# Altium schematic symbol library fiber-optic-hp.SCHLIB: 12 symbols
Pins are listed as number, name and electrical type; pins without a type are passive.

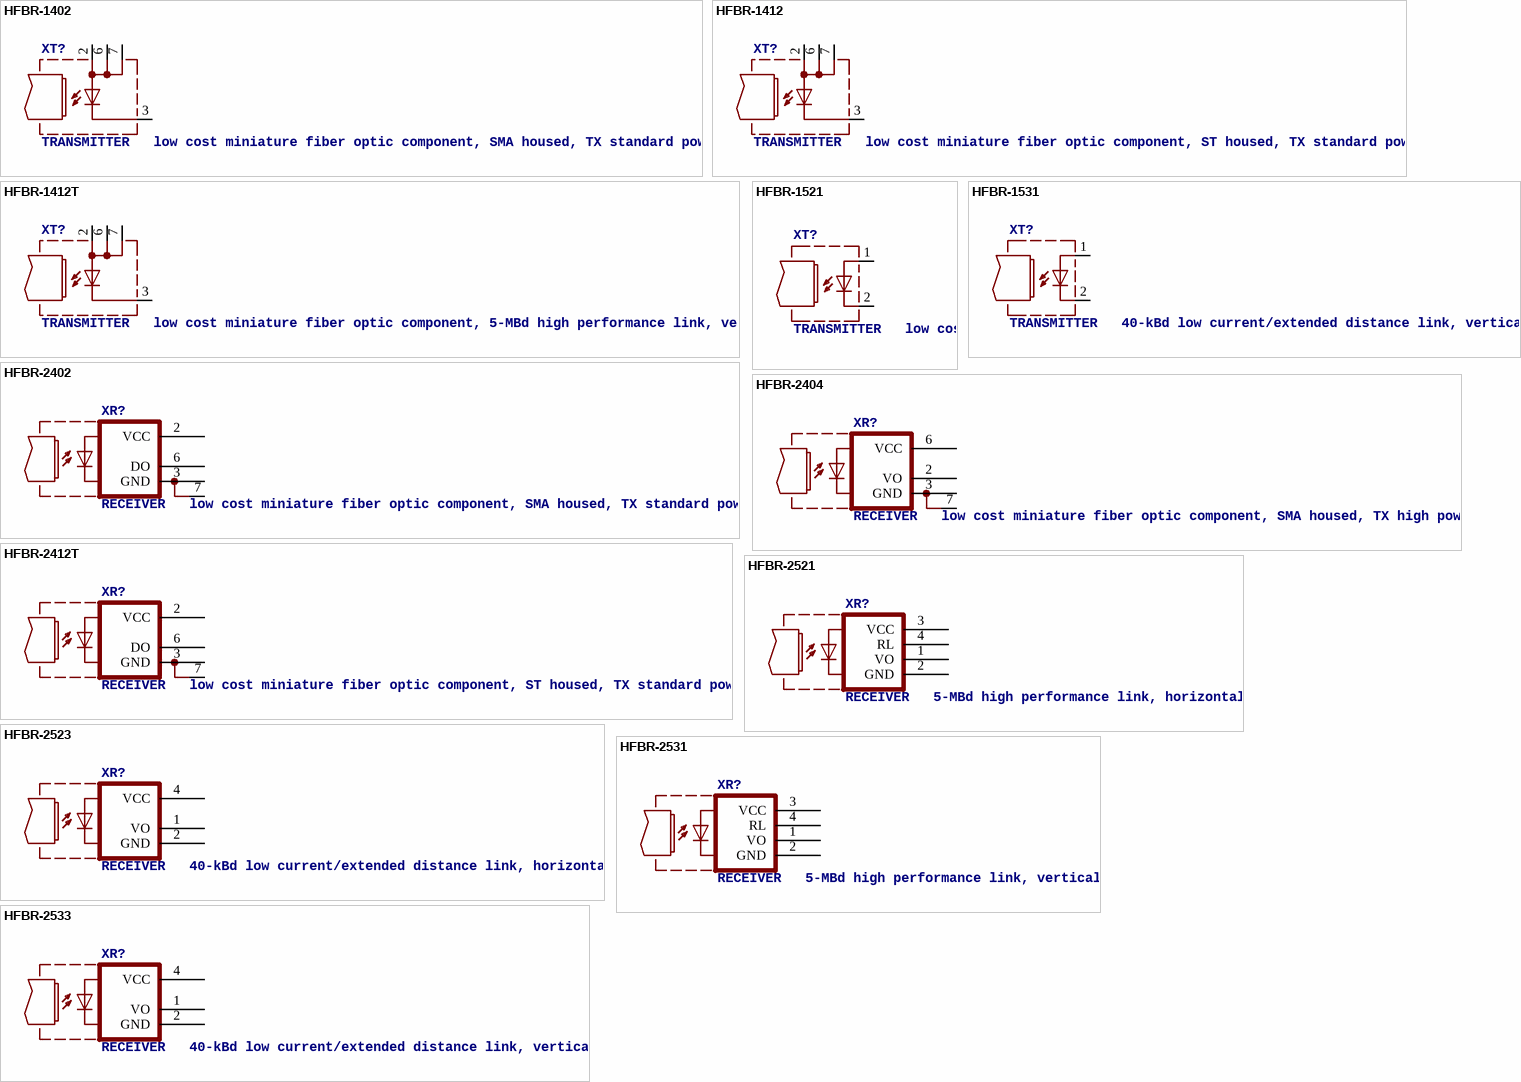
[diagram p0: symbols HFBR-1402 to HFBR-2533]

## HFBR-1402
designator XT?, comment TRANSMITTER   low cost miniature fiber optic component, SMA housed, TX standard power
MF: AGILENT TECHNOLOGIES; MPN: HFBR-1402; OC_FARNELL: 1173143; OC_NEWARK: 06F6033
footprint HFBR-X40X
pins: 2 A, 3 C, 6 A1, 7 A2

## HFBR-1412
designator XT?, comment TRANSMITTER   low cost miniature fiber optic component, ST housed, TX standard power
MF: AGILENT TECHNOLOGIES; MPN: HFBR-1412; OC_FARNELL: 1173153; OC_NEWARK: 06F6037
footprint HFBR-X41X
pins: 2 A, 3 C, 6 A1, 7 A2

## HFBR-1412T
designator XT?, comment TRANSMITTER   low cost miniature fiber optic component, 5-MBd high performance link, vertical
MPN: HFBR-1412T; MF: AGILENT TECHNOLOGIES; OC_FARNELL: 1247625; OC_NEWARK: 06F6039
footprint HFBR-X41XT
pins: 2 A, 3 C, 6 A1, 7 A2

## HFBR-1521
designator XT?, comment TRANSMITTER   low cost miniature fiber optic component, 5-MBd high performance link, vertical
MF: AGILENT TECHNOLOGIES; MPN: HFBR-1521; OC_FARNELL: 1173128; OC_NEWARK: 06F6050
footprint HFBR-15X3
pins: 1 A, 2 C

## HFBR-1531
designator XT?, comment TRANSMITTER   40-kBd low current/extended distance link, vertical
MF: AGILENT TECHNOLOGIES; MPN: HFBR-1531; OC_FARNELL: 1247639; OC_NEWARK: 06F6057
footprint HFBR-15X1V
pins: 1 A, 2 C

## HFBR-2402
designator XR?, comment RECEIVER   low cost miniature fiber optic component, SMA housed, TX standard power
MF: AGILENT TECHNOLOGIES; MPN: HFBR-2402; OC_FARNELL: 1173146; OC_NEWARK: 06F6065
footprint HFBR-X40X
pins: 2 VCC (power), 3 GND (power), 6 DO, 7 GND1 (power)

## HFBR-2404
designator XR?, comment RECEIVER   low cost miniature fiber optic component, SMA housed, TX high power
MF: AGILENT TECHNOLOGIES; MPN: HFBR-2404; OC_FARNELL: 1173147; OC_NEWARK: 06F6068
footprint HFBR-X40X
pins: 2 VO, 3 GND (power), 6 VCC (power), 7 GND1 (power)

## HFBR-2412T
designator XR?, comment RECEIVER   low cost miniature fiber optic component, ST housed, TX standard power
MPN: HFBR-2412T; MF: AGILENT TECHNOLOGIES; OC_FARNELL: 1247650; OC_NEWARK: 06F6075
footprint HFBR-X41XT
pins: 2 VCC (power), 3 GND (power), 6 DO, 7 GND1 (power)

## HFBR-2521
designator XR?, comment RECEIVER   5-MBd high performance link, horizontal
MF: AGILENT TECHNOLOGIES; MPN: HFBR-2521; OC_FARNELL: 1173131; OC_NEWARK: 06F6091
footprint HFBR-15X3
pins: 1 VO, 2 GND (power), 3 VCC (power), 4 RL

## HFBR-2523
designator XR?, comment RECEIVER   40-kBd low current/extended distance link, horizontal
MF: AGILENT TECHNOLOGIES; MPN: HFBR-2523; OC_FARNELL: 1173127; OC_NEWARK: 06F6093
footprint HFBR-15X3
pins: 1 VO, 2 GND (power), 4 VCC (power)

## HFBR-2531
designator XR?, comment RECEIVER   5-MBd high performance link, vertical
MF: AGILENT TECHNOLOGIES; MPN: HFBR-2531; OC_FARNELL: 1247665; OC_NEWARK: 06F6097
footprint HFBR-15X1V
pins: 1 VO, 2 GND (power), 3 VCC (power), 4 RL

## HFBR-2533
designator XR?, comment RECEIVER   40-kBd low current/extended distance link, vertical
MF: AGILENT TECHNOLOGIES; MPN: HFBR-2533; OC_FARNELL: 1247667; OC_NEWARK: 06F6099
footprint HFBR-15X1V
pins: 1 VO, 2 GND (power), 4 VCC (power)